# Altium footprint library lps_display_rev_i.PcbLib: 33 footprints (part 1 of 3)
Each footprint in its own frame and in the unit in brackets; x right, y up, seen from the top. Pads: shape width x height; smd on the part's side, far side on the other; paste and mask are expansions set on the pad; w line width, h text height; cw(c..) or ccw(c..) is an arc to the next point about the centre after c.
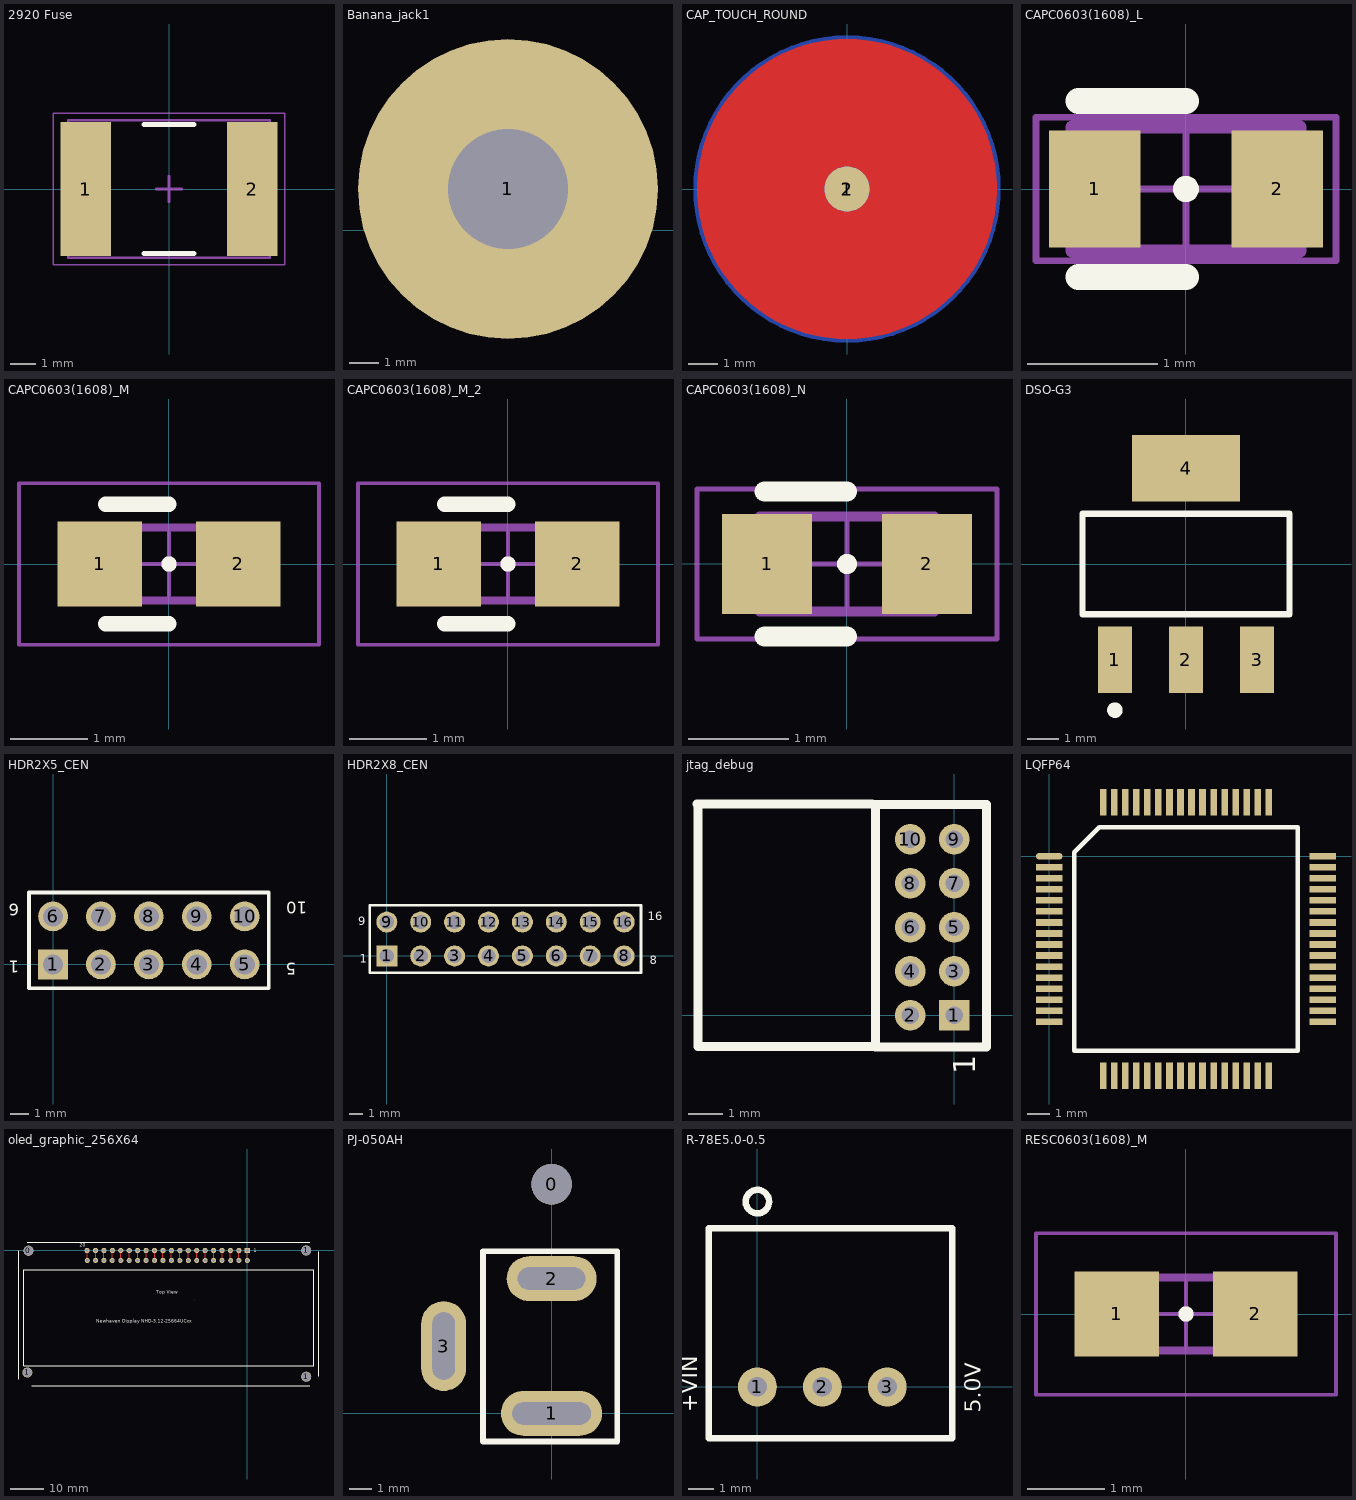
[diagram p0: the footprints below, top view; thin cyan lines are the x and y axes]

## 2920 Fuse [mm]
pads (2):
  rect 2x5.3 smd: 1(-3.3,0) 2(3.3,0)
Top Overlay:
  lines w0.2: -1,-2.55 1,-2.55 ; -1,2.55 1,2.55
Mechanical 13:
  lines w0.1: -3.99,-2.72 -3.99,2.72 3.99,2.72 3.99,-2.72 -3.99,-2.72
Mechanical 15:
  lines w0.05: -4.6,-3 -4.6,3 4.6,3 4.6,-3 -4.6,-3
  lines w0.1: -0.5,0 0.5,0 ; 0,-0.5 0,0.5
3D body "2920 Fuse.step": height 2, standoff 0, extent -3.99,-2.72 3.99,2.72

## Banana_jack1 [mil]
pads (1):
  round 400 hole 160: 1(495,55)

## CAP_TOUCH_ROUND [mil]
pads (2):
  round 60 smd: 1(0,0)
  round 60 smd far side: 2(0,0)
Top Layer:
  lines w200: -100,0 ccw(c0,0) 100,0 ccw(c0,0) -100,0
Bottom Layer:
  lines w10: -190,-50 -150,-50 ; -190,50 -150,50 ; -170,-100 -155,-100 -150,-100 ; -170,100 -150,100 ; -150,-130 -150,-100 ; -150,130 -150,100 ; -130,-150 -100,-150 ; -130,150 -100,150 ; -100,-170 -100,-150 ; -100,170 -100,150 ; -50,-190 -50,-150 ; -50,190 -50,150 ; 50,-190 50,-150 ; 50,190 50,150 ; 100,-170 100,-150 ; 100,170 100,150 ; 130,-150 100,-150 ; 130,150 100,150 ; 150,-130 150,-100 ; 150,130 150,100 ; 170,-100 150,-100 ; 170,100 150,100 ; 190,-50 150,-50 ; 190,50 150,50 ; -200,0 cw(c0,0) 0,200 ; -200,0 ccw(c0,0) -166.22,-111.22 ccw(c0,0) 0,-200 ; -200,0 -150,0 ; -150,-100 -100,-100 ; -150,-100 -150,-50 ; -150,-50 -150,0 ; -150,-50 -100,-50 ; -150,0 -150,50 ; -150,0 -100,0 ; -150,50 -100,50 ; -150,50 -150,100 ; -150,100 -100,100 ; -100,-150 -50,-150 ; -100,-150 -100,-100 ; -100,-100 -50,-100 ; -100,-100 -100,-50 ; -100,-50 -100,0 ; -100,-50 -50,-50 ; -100,0 -100,50 ; -100,0 -50,0 ; -100,50 -50,50 ; -100,50 -100,100 ; -100,100 -50,100 ; -100,100 -100,150 ; -100,150 -50,150 ; -50,-150 -50,-100 ; -50,-150 0,-150 ; -50,-100 -50,-50 ; -50,-100 0,-100 ; -50,-50 -50,0 ; -50,-50 0,-50 ; -50,0 -50,50 ; -50,0 0,0 ; -50,50 -50,100 ; -50,50 0,50 ; -50,100 -50,150 ; -50,100 0,100 ; -50,150 0,150 ; 0,-200 ccw(c0,0) 198.6,-23.6 ccw(c0,0) 200,0 ; 0,-200 0,-150 ; 0,-150 0,-100 ; 0,-150 50,-150 ; 0,-100 0,-50 ; 0,-100 50,-100 ; 0,-50 0,0 ; 0,-50 50,-50 ; 0,0 45,0 50,0 ; 0,0 0,50 ; 0,50 0,100 ; 0,50 50,50 ; 0,100 0,150 ; 0,100 50,100 ; 0,150 0,200 ; 0,150 50,150 ; 0,200 cw(c0,0) 200,0 ; 50,-150 50,-100 ; 50,-150 100,-150 ; 50,-100 50,-50 ; 50,-100 100,-100 ; 50,-50 50,0 ; 50,-50 100,-50 ; 50,0 50,50 ; 50,0 100,0 ; 50,50 50,100 ; 50,50 100,50 ; 50,100 50,150 ; 50,100 100,100 ; 50,150 100,150 ; 100,-150 100,-100 ; 100,-100 100,-50 ; 100,-100 150,-100 ; 100,-50 100,0 ; 100,-50 150,-50 ; 100,0 100,50 ; 100,0 150,0 ; 100,50 100,100 ; 100,50 150,50 ; 100,100 100,150 ; 100,100 150,100 ; 150,-100 150,-50 ; 150,-50 150,0 ; 150,0 175,0 200,0 ; 150,0 150,50 ; 150,50 150,100

## CAPC0603(1608)_L [mm]
pads (2):
  rect 0.7x0.9 smd: 1(-0.7,0) 2(0.7,0)
Top Overlay:
  circle w0.1: c0,0 r0.05
  lines w0.2: -0.825,-0.675 0,-0.675 ; -0.825,0.675 0,0.675
Mechanical 13:
  lines w0.1: -0.875,-0.475 -0.875,0.475 0.875,0.475 0.875,-0.475 -0.875,-0.475
Mechanical 15:
  lines w0.05: -0.475,0 0.475,0 ; 0,-0.475 0,0.475 ; -1.15,-0.55 -1.15,0.55 1.15,0.55 1.15,-0.55 -1.15,-0.55
3D body "CAP-0603.STEP": height 0.86, standoff 0, extent -0.8,-0.435 0.8,0.425

## CAPC0603(1608)_M [mm]
pads (2):
  rect 1.1x1.1 smd: 1(-0.9,0) 2(0.9,0)
Top Overlay:
  circle w0.1: c0,0 r0.05
  lines w0.2: -0.825,-0.775 0,-0.775 ; -0.825,0.775 0,0.775
Mechanical 13:
  lines w0.1: -0.875,-0.475 0.875,-0.475 0.875,0.475 -0.875,0.475 -0.875,-0.475
Mechanical 15:
  lines w0.05: -0.475,0 0.475,0 ; 0,-0.475 0,0.475 ; -1.95,-1.05 1.95,-1.05 1.95,1.05 -1.95,1.05 -1.95,-1.05
3D body "CAP-0603.STEP": height 0.86, standoff 0, extent -0.8,-0.435 0.8,0.425

## CAPC0603(1608)_M_2 [mm]
pads (2):
  rect 1.1x1.1 smd: 1(-0.9,0) 2(0.9,0)
Top Overlay:
  circle w0.1: c0,0 r0.05
  lines w0.2: -0.825,-0.775 0,-0.775 ; -0.825,0.775 0,0.775
Mechanical 13:
  lines w0.1: -0.875,-0.475 -0.875,0.475 0.875,0.475 0.875,-0.475 -0.875,-0.475
Mechanical 15:
  lines w0.05: -0.475,0 0.475,0 ; 0,-0.475 0,0.475 ; -1.95,-1.05 -1.95,1.05 1.95,1.05 1.95,-1.05 -1.95,-1.05
3D body "CAP-0603.STEP": height 0.86, standoff 0, extent -0.8,-0.435 0.8,0.425

## CAPC0603(1608)_N [mm]
pads (2):
  rect 0.9x1 smd: 1(-0.8,0) 2(0.8,0)
Top Overlay:
  circle w0.1: c0,0 r0.05
  lines w0.2: -0.825,-0.725 0,-0.725 ; -0.825,0.725 0,0.725
Mechanical 13:
  lines w0.1: -0.875,-0.475 -0.875,0.475 0.875,0.475 0.875,-0.475 -0.875,-0.475
Mechanical 15:
  lines w0.05: -0.475,0 0.475,0 ; 0,-0.475 0,0.475 ; -1.5,-0.75 -1.5,0.75 1.5,0.75 1.5,-0.75 -1.5,-0.75
3D body "CAP-0603.STEP": height 0.86, standoff 0, extent -0.8,-0.435 0.8,0.425

## DSO-G3 [mm]
pads (4):
  rect 1.1x2.15 smd: 1(-2.3,-3.1) 2(0,-3.1) 3(2.3,-3.1)
  rect 3.5x2.15 smd: 4(0,3.1)
Top Overlay:
  circle w0.25: c-2.3,-4.725 r0.125
  lines w0.2: -3.35,-1.625 -3.35,1.625 3.35,1.625 3.35,-1.625 -3.35,-1.625
3D body "SOT223.STEP": height 1.68, standoff 0, extent -3.249,-3.404 3.251,3.556

## HDR2X5_CEN [mil]
pads (10):
  rect 62x62 hole 42: 1(0,0)
  round 62 hole 42: 2(100,0) 3(200,0) 4(300,0) 5(400,0) 6(0,100) 7(100,100) 8(200,100) 9(300,100) 10(400,100)
Top Overlay:
  lines w7.87: -50,-50 -50,150 450,150 450,-50 -50,-50
  text "6" at -71,127 h25
  text "10" at 530,131 h25
  text "5" at 508,3 h25
  text "1" at -70,8 h25
3D body "HDR2x5.STEP": height 330, standoff -150, extent -50,-50 450,150

## HDR2X8_CEN [mil]
pads (16):
  rect 62x62 hole 42: 1(0,0)
  round 62 hole 42: 2(100,0) 3(200,0) 4(300,0) 5(400,0) 6(500,0) 7(600,0) 8(700,0) 9(0,100) 10(100,100) 11(200,100) 12(300,100) 13(400,100) 14(500,100) 15(600,100) 16(700,100)
Top Overlay:
  lines w7.87: -50,-50 -50,150 750,150 750,-50 -50,-50
  text "9" at -85,90 h25
  text "1" at -80,-20 h25
  text "8" at 775,-25 h25
  text "16" at 770,105 h25
3D body "HDR2x8.STEP": height 330, standoff -150, extent -50,-50 750,150

## jtag_debug [mil]
pads (10):
  rect 35x35 hole 20: 1(0,0)
  round 35 hole 20: 2(-50,0) 3(0,50) 4(-50,50) 5(0,100) 6(-50,100) 7(0,150) 8(-50,150) 9(0,200) 10(-50,200)
Top Overlay:
  lines w10: -292.32,240.16 -93.5,240.16 ; -291.34,-35.43 -291.34,238.58 ; -288.39,-35.43 -89.57,-35.43 ; -89.37,-36.22 36.61,-36.22 36.61,239.37 -89.37,239.37 -89.37,-36.22
  text "1" at 23.62,-66.93 h25

## LQFP64 [mm]
pads (64):
  oval 1.2x0.3 smd: 1(0,0)
  rect 1.2x0.3 smd: 2(0,-0.5) 3(0,-1) 4(0,-1.5) 5(0,-2) 6(0,-2.5) 7(0,-3) 8(0,-3.5) 9(0,-4) 10(0,-4.5) 11(0,-5) 12(0,-5.5) 13(0,-6) 14(0,-6.5) 15(0,-7) 16(0,-7.5) 33(12.4,-7.5) 34(12.4,-7) 35(12.4,-6.5) 36(12.4,-6) 37(12.4,-5.5) 38(12.4,-5) 39(12.4,-4.5) 40(12.4,-4) 41(12.4,-3.5) 42(12.4,-3) 43(12.4,-2.5) 44(12.4,-2) 45(12.4,-1.5) 46(12.4,-1) 47(12.4,-0.5) 48(12.4,0)
  rect 0.3x1.2 smd: 17(2.45,-9.95) 18(2.95,-9.95) 19(3.45,-9.95) 20(3.95,-9.95) 21(4.45,-9.95) 22(4.95,-9.95) 23(5.45,-9.95) 24(5.95,-9.95) 25(6.45,-9.95) 26(6.95,-9.95) 27(7.45,-9.95) 28(7.95,-9.95) 29(8.45,-9.95) 30(8.95,-9.95) 31(9.45,-9.95) 32(9.95,-9.95) 49(9.95,2.45) 50(9.45,2.45) 51(8.95,2.45) 52(8.45,2.45) 53(7.95,2.45) 54(7.45,2.45) 55(6.95,2.45) 56(6.45,2.45) 57(5.95,2.45) 58(5.45,2.45) 59(4.95,2.45) 60(4.45,2.45) 61(3.95,2.45) 62(3.45,2.45) 63(2.95,2.45) 64(2.45,2.45)
Top Overlay:
  lines w0.2: 1.135,-8.815 1.135,0.18 2.27,1.315 11.265,1.315 11.265,-8.815 1.135,-8.815

## oled_graphic_256X64 [mil]
pads (44):
  round 120 hole 116: 0(-2595,-3) 1(698.19,-1496.06) 1(698.19,0)
  round 120 hole 106.3: 1(-2608.27,-1446.22)
  round 60 hole 39.37: 1(0,-118.11) 2(-100,-118.11) 3(-196.85,-118.11) 4(-300,-118.11) 5(-400,-118.11) 6(-500,-118.11) 7(-600,-118.11) 8(-699.21,-118.11) 9(-800,-118.11) 10(-900,-118.11) 11(-1000,-118.11) 12(-1100,-118.11) 13(-1200,-118.11) 14(-1300,-118.11) 15(-1400,-118.11) 16(-1500,-118.11) 17(-1602.36,-118.11) 18(-1700,-118.11) 19(-1799.21,-118.11) 20(-1897.64,-118.11)
  rect 62x62 hole 39.37: 1(0,0)
  round 62 hole 39.37: 2(-100,0) 3(-200,0) 4(-300,0) 5(-400,0) 6(-500,0) 7(-600,0) 8(-700,0) 9(-800,0) 10(-900,0) 11(-1000,0) 12(-1100,0) 13(-1200,0) 14(-1300,0) 15(-1400,0) 16(-1500,0) 17(-1600,0) 18(-1700,0) 19(-1800,0) 20(-1900,0)
Top Layer:
  lines w10: -1900,-107.87 -1900,0 ; -1800,-107.09 -1800,0 ; -1700,-114.96 -1700,0 ; -1600,-104.72 -1600,-88.11 -1600,0 ; -1500,-118.11 -1500,-108.11 -1500,0 ; -1400,-118.11 -1400,0 ; -1300,-109.45 -1300,0 ; -1200,-109.45 -1200,0 ; -1100,-104.72 -1100,0 ; -1000,-118.11 -1000,0 ; -900,-118.11 -900,0 ; -800,-118.11 -800,0 ; -700,-101.57 -700,0 ; -600,-118.11 -600,0 ; -500,-106.3 -500,0 ; -400,-118.11 -400,0 ; -300,-118.11 -300,0 ; -200,-114.96 -200,0 ; -100,-118.11 -100,0 ; 0,-118.11 0,0 ; -630.32,-589.76 -630.31,-589.76
Top Overlay:
  lines w7.87: -2707.09,-1525.59 -2707.09,-0.39 ; -2608.27,98.43 -1826.57,98.43 738.19,98.43 ; -2558.27,-1603.94 -2557.87,-1604.33 738.19,-1604.33 ; 850,-1492.52 850,-13.39
  lines w10: -2648.03,-1367.32 787.01,-1367.32 787.01,-225.59 -2648.03,-225.59 -2648.03,-1367.32
  text "20" at -1985,41.9 h39.37
  text "1" at 78.74,-19.68 h39.37
  text "Top View" at -1079.13,-511.02 h39.37
  text "Newhaven Display NHD-3.12-25664UCxx" at -1791.73,-855.51 h39.37

## PJ-050AH [mm]
pads (4):
  round 1.8 hole 1.8 unplated: 0(0,10.2)
  oval 4.5x2 hole 1 slot 3.5 at 0 deg: 1(0,0)
  oval 4x2 hole 1 slot 3 at 0 deg: 2(0,6)
  oval 2x4 hole 1 slot 3 at 90 deg: 3(-4.8,3)
Top Overlay:
  lines w0.254: -3.048,-1.245 -3.048,7.214 2.921,7.214 2.921,-1.245 -3.048,-1.245
3D body "pj-050ah.stp": height 11, standoff -2.2, extent -4.978,-0.723 4.522,13.677

## R-78E5.0-0.5 [mil]
pads (3):
  round 60 hole 30: 1(0,0) 2(100,0) 3(200,0)
Top Overlay:
  lines w10: 17.49,289.81 ccw(c0,285.43) 18.03,285.43 ; -75,-78.74 -75,244.09 300,244.09 300,-78.74 -75,-78.74
  text "+VIN" at -93,-39 h25
  text "5.0V" at 344,-40 h25

## RESC0603(1608)_M [mm]
pads (2):
  rect 1.1x1.1 smd: 1(-0.9,0) 2(0.9,0)
Top Overlay:
  circle w0.1: c0,0 r0.05
Mechanical 13:
  lines w0.1: -0.85,-0.475 -0.85,0.475 0.85,0.475 0.85,-0.475 -0.85,-0.475
Mechanical 15:
  lines w0.05: -0.475,0 0.475,0 ; 0,-0.475 0,0.475 ; -1.95,-1.05 -1.95,1.05 1.95,1.05 1.95,-1.05 -1.95,-1.05
3D body "RES-0603.STEP": height 0.51, standoff 0, extent -0.799,-0.427 0.801,0.433